# Altium schematic symbol library SIMCard.SchLib: 8 symbols
Pins are listed as number, name and electrical type; pins without a type are passive.

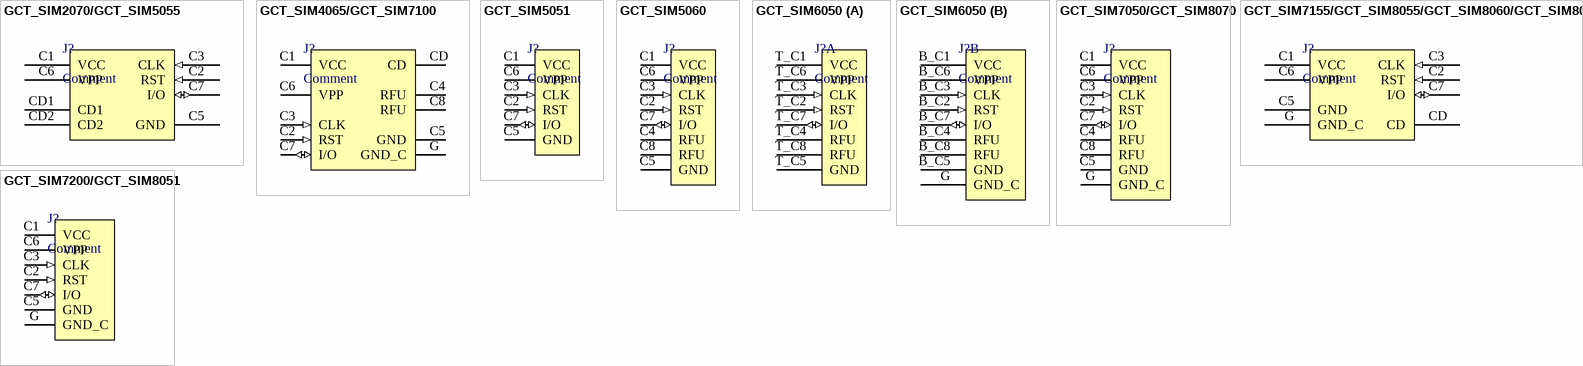
[diagram p0: symbols GCT_SIM2070/GCT_SIM5055 to GCT_SIM7200/GCT_SIM8051]

## GCT_SIM2070/GCT_SIM5055
designator J?, comment Comment
pins: C1 VCC (power) "Power supply for the SIM card.", C2 RST (in) "Reset pin to initialize or reset the SIM card.", C3 CLK (in) "Clock signal for timing and synchronization.", C5 GND (power) "Ground connection.", C6 VPP (power) "Programming voltage (optional, rarely used).", C7 I/O (io) "Bidirectional data communication.", CD1 (power) "Card detection switch 1", CD2 (power) "Card detection switch 2"

## GCT_SIM4065/GCT_SIM7100
designator J?, comment Comment
pins: C1 VCC (power) "Power supply for the SIM card.", C2 RST (in) "Reset pin to initialize or reset the SIM card.", C3 CLK (in) "Clock signal for timing and synchronization.", C4 RFU "Reserved for future use.", C5 GND (power) "Ground connection.", C6 VPP (power) "Programming voltage (optional, rarely used).", C7 I/O (io) "Bidirectional data communication.", C8 RFU "Reserved for future use.", CD (power) "Card detection switch", G GND_C (power) "Chassis ground"

## GCT_SIM5051
designator J?, comment Comment
pins: C1 VCC (power) "Power supply for the SIM card.", C2 RST (in) "Reset pin to initialize or reset the SIM card.", C3 CLK (in) "Clock signal for timing and synchronization.", C5 GND (power) "Ground connection.", C6 VPP (power) "Programming voltage (optional, rarely used).", C7 I/O (io) "Bidirectional data communication."

## GCT_SIM5060
designator J?, comment Comment
pins: C1 VCC (power) "Power supply for the SIM card.", C2 RST (in) "Reset pin to initialize or reset the SIM card.", C3 CLK (in) "Clock signal for timing and synchronization.", C4 RFU "Reserved for future use.", C5 GND (power) "Ground connection.", C6 VPP (power) "Programming voltage (optional, rarely used).", C7 I/O (io) "Bidirectional data communication.", C8 RFU "Reserved for future use."

## GCT_SIM6050
designator J?, comment Comment
part A pins: T_C1 VCC (power) "Power supply for the SIM card.", T_C2 RST (in) "Reset pin to initialize or reset the SIM card.", T_C3 CLK (in) "Clock signal for timing and synchronization.", T_C4 RFU "Reserved for future use.", T_C5 GND (power) "Ground connection.", T_C6 VPP (power) "Programming voltage (optional, rarely used).", T_C7 I/O (io) "Bidirectional data communication.", T_C8 RFU "Reserved for future use."
part B pins: B_C1 VCC (power) "Power supply for the SIM card.", B_C2 RST (in) "Reset pin to initialize or reset the SIM card.", B_C3 CLK (in) "Clock signal for timing and synchronization.", B_C4 RFU "Reserved for future use.", B_C5 GND (power) "Ground connection.", B_C6 VPP (power) "Programming voltage (optional, rarely used).", B_C7 I/O (io) "Bidirectional data communication.", B_C8 RFU "Reserved for future use.", G GND_C (power) "Chassis ground"

## GCT_SIM7050/GCT_SIM8070
designator J?, comment Comment
pins: C1 VCC (power) "Power supply for the SIM card.", C2 RST (in) "Reset pin to initialize or reset the SIM card.", C3 CLK (in) "Clock signal for timing and synchronization.", C4 RFU "Reserved for future use.", C5 GND (power) "Ground connection.", C6 VPP (power) "Programming voltage (optional, rarely used).", C7 I/O (io) "Bidirectional data communication.", C8 RFU "Reserved for future use.", G GND_C (power) "Chassis ground"

## GCT_SIM7155/GCT_SIM8055/GCT_SIM8060/GCT_SIM8066
designator J?, comment Comment
pins: C1 VCC (power) "Power supply for the SIM card.", C2 RST (in) "Reset pin to initialize or reset the SIM card.", C3 CLK (in) "Clock signal for timing and synchronization.", C5 GND (power) "Ground connection.", C6 VPP (power) "Programming voltage (optional, rarely used).", C7 I/O (io) "Bidirectional data communication.", CD (power) "Card detection switch", G GND_C (power) "Chassis ground"

## GCT_SIM7200/GCT_SIM8051
designator J?, comment Comment
pins: C1 VCC (power) "Power supply for the SIM card.", C2 RST (in) "Reset pin to initialize or reset the SIM card.", C3 CLK (in) "Clock signal for timing and synchronization.", C5 GND (power) "Ground connection.", C6 VPP (power) "Programming voltage (optional, rarely used).", C7 I/O (io) "Bidirectional data communication.", G GND_C (power) "Chassis ground"